# Altium footprint library USB_MICRO_FEMALE_1050170001.PcbLib: 1 footprints
Each footprint in its own frame and in the unit in brackets; x right, y up, seen from the top. Pads: shape width x height; smd on the part's side, far side on the other; paste and mask are expansions set on the pad; w line width, h text height; cw(c..) or ccw(c..) is an arc to the next point about the centre after c.
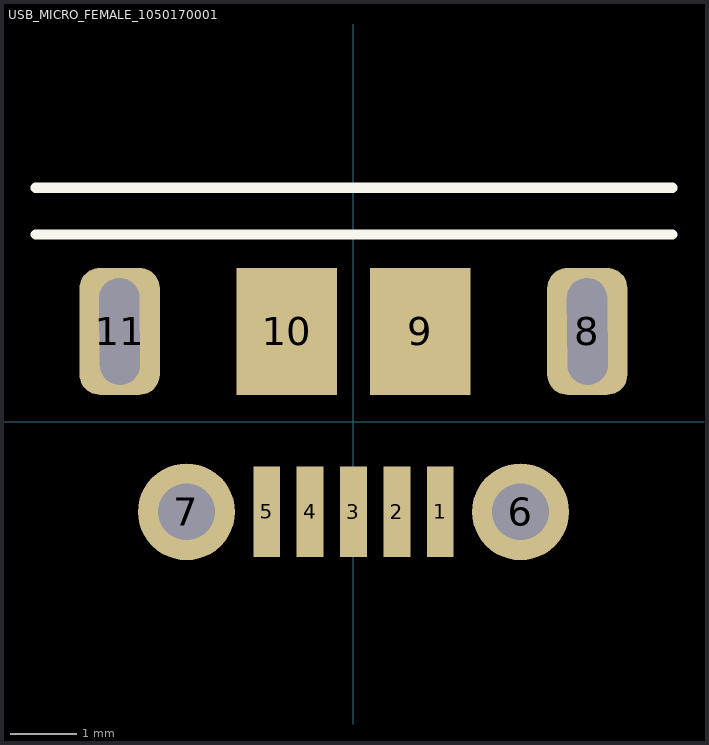
[diagram p0: the footprint, top view; thin cyan lines are the x and y axes]

## USB_MICRO_FEMALE_1050170001 [mm]
pads (11):
  rect 0.4x1.35 smd paste-0.1: 1(1.3,-1.35) 2(0.65,-1.35) 3(0,-1.35) 4(-0.65,-1.35) 5(-1.3,-1.35)
  round 1.45 hole 0.85: 6(2.5,-1.35) 7(-2.5,-1.35)
  rrect50% 1.2x1.9 hole 0.6 slot 1.6 at 90.5 deg: 8(3.5,1.35) 11(-3.5,1.35)
  rect 1.5x1.9 smd: 9(1,1.35) 10(-1,1.35)
Top Overlay:
  lines w0.152: -4.755,2.8 4.77,2.8 ; -4.755,3.5 4.77,3.5
3D body: height 2.63, standoff -0.67, extent -4.089,-1.524 4.111,3.876